# Altium schematic symbol library Optoacopladores.SchLib: 6 symbols
Pins are listed as number, name and electrical type; pins without a type are passive.

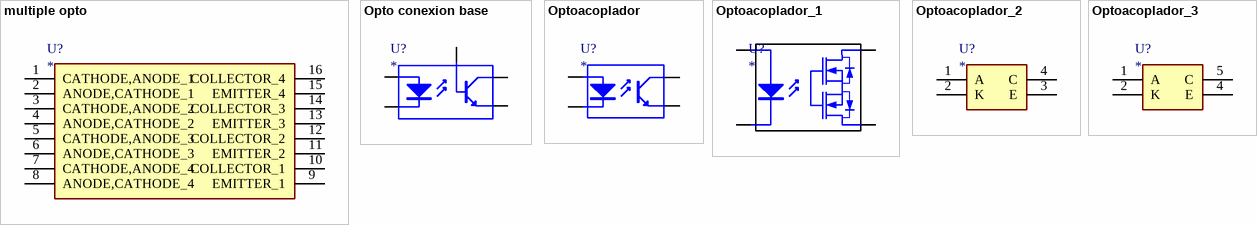
[diagram p0: symbols multiple opto to Optoacoplador_3]

## multiple opto
designator U?
footprint SOIC127P700X230-16N
pins: 1 CATHODE,ANODE_1, 2 ANODE,CATHODE_1, 3 CATHODE,ANODE_2, 4 ANODE,CATHODE_2, 5 CATHODE,ANODE_3, 6 ANODE,CATHODE_3, 7 CATHODE,ANODE_4, 8 ANODE,CATHODE_4, 9 EMITTER_1, 10 COLLECTOR_1, 11 EMITTER_2, 12 COLLECTOR_2, 13 EMITTER_3, 14 COLLECTOR_3, 15 EMITTER_4, 16 COLLECTOR_4

## Opto conexion base
designator U?
footprint DIP-6
footprint DIP-6 smd
pins: 1 A "Anode", 2 K "Cathode", 4 E "Emitter", 5 C "Collector", 6 B "Base"

## Optoacoplador
designator U?
footprint SOP254P1030X390-4N
footprint DIP-4
footprint SOIC127P700X220-4N
pins: 1 A "Anode", 2 K "Cathode", 3 E "Emitter", 4 C "Collector"

## Optoacoplador_1
designator U?
footprint SOP254P1030X390-4N
pins: 1 A "Anode", 2 K "Cathode", 3 E "Emitter", 4 C "Collector"

## Optoacoplador_2
designator U?
footprint SOP254P1030X390-4N
footprint DIP-4
footprint SOIC127P700X220-4N
pins: 1 A, 2 K, 3 E, 4 C

## Optoacoplador_3
designator U?
footprint DIP-6 smd
pins: 1 A, 2 K, 4 E, 5 C